# Altium schematic symbol library ICs.SCHLIB: 23 symbols
Pins are listed as number, name and electrical type; pins without a type are passive.

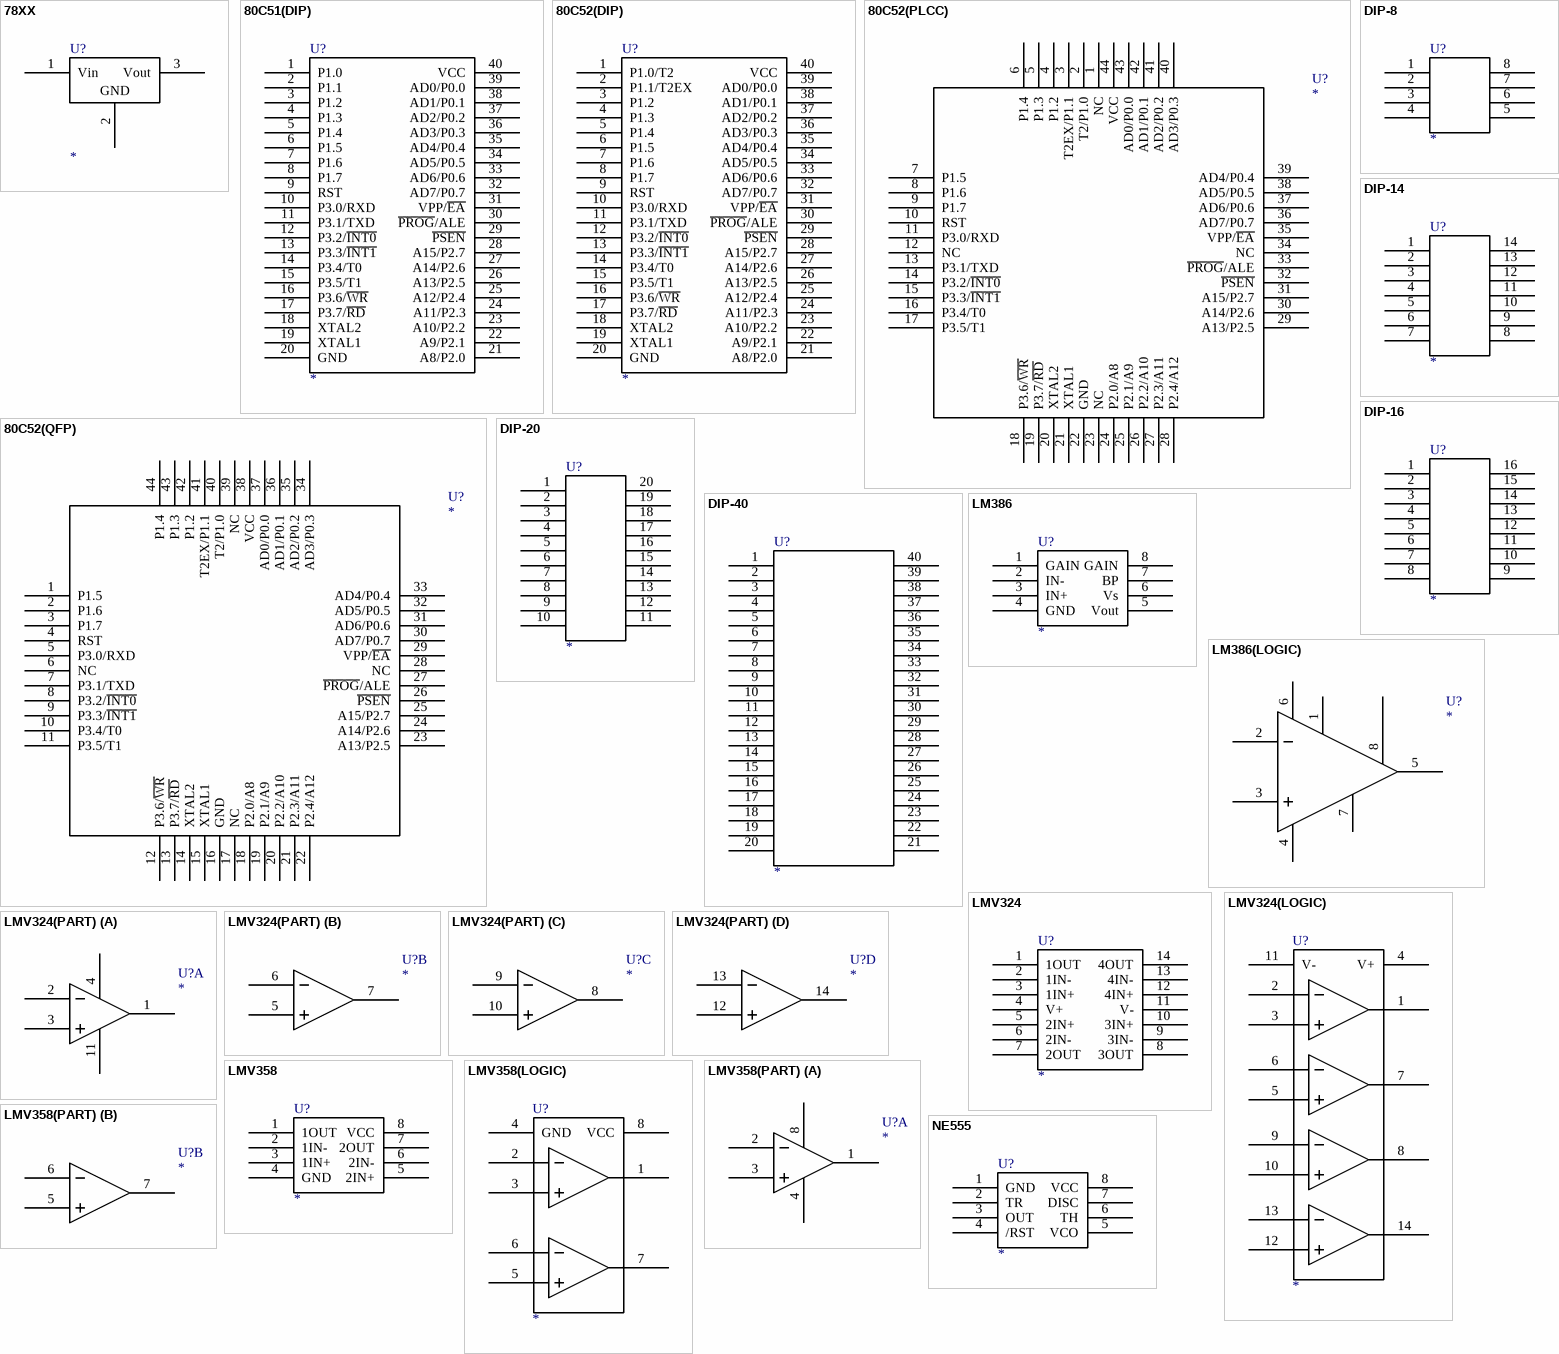
[diagram p0: symbols 78XX to NE555]

## 78XX
designator U?
footprint TO-220
footprint TO-220(A)
footprint TO-220(B)
pins: 1 Vin, 2 GND, 3 Vout

## 80C51(DIP)
designator U?
footprint DIP-40(600)
footprint DIP-40(CLAMP)
pins: 1 P1.0, 2 P1.1, 3 P1.2, 4 P1.3, 5 P1.4, 6 P1.5, 7 P1.6, 8 P1.7, 9 RST, 10 P3.0/RXD, 11 P3.1/TXD, 12 P3.2/~{INT0}, 13 P3.3/~{INT1}, 14 P3.4/T0, 15 P3.5/T1, 16 P3.6/~{WR}, 17 P3.7/~{RD}, 18 XTAL2, 19 XTAL1, 20 GND, 21 A8/P2.0, 22 A9/P2.1, 23 A10/P2.2, 24 A11/P2.3, 25 A12/P2.4, 26 A13/P2.5, 27 A14/P2.6, 28 A15/P2.7, 29 ~{PSEN}, 30 ~{PROG}/ALE, 31 VPP/~{EA}, 32 AD7/P0.7, 33 AD6/P0.6, 34 AD5/P0.5, 35 AD4/P0.4, 36 AD3/P0.3, 37 AD2/P0.2, 38 AD1/P0.1, 39 AD0/P0.0, 40 VCC

## 80C52(DIP)
designator U?
footprint DIP-40(600)
footprint DIP-40(CLAMP)
pins: 1 P1.0/T2, 2 P1.1/T2EX, 3 P1.2, 4 P1.3, 5 P1.4, 6 P1.5, 7 P1.6, 8 P1.7, 9 RST, 10 P3.0/RXD, 11 P3.1/TXD, 12 P3.2/~{INT0}, 13 P3.3/~{INT1}, 14 P3.4/T0, 15 P3.5/T1, 16 P3.6/~{WR}, 17 P3.7/~{RD}, 18 XTAL2, 19 XTAL1, 20 GND, 21 A8/P2.0, 22 A9/P2.1, 23 A10/P2.2, 24 A11/P2.3, 25 A12/P2.4, 26 A13/P2.5, 27 A14/P2.6, 28 A15/P2.7, 29 ~{PSEN}, 30 ~{PROG}/ALE, 31 VPP/~{EA}, 32 AD7/P0.7, 33 AD6/P0.6, 34 AD5/P0.5, 35 AD4/P0.4, 36 AD3/P0.3, 37 AD2/P0.2, 38 AD1/P0.1, 39 AD0/P0.0, 40 VCC

## 80C52(PLCC)
designator U?
pins: 1 NC, 2 T2/P1.0, 3 T2EX/P1.1, 4 P1.2, 5 P1.3, 6 P1.4, 7 P1.5, 8 P1.6, 9 P1.7, 10 RST, 11 P3.0/RXD, 12 NC, 13 P3.1/TXD, 14 P3.2/~{INT0}, 15 P3.3/~{INT1}, 16 P3.4/T0, 17 P3.5/T1, 18 P3.6/~{WR}, 19 P3.7/~{RD}, 20 XTAL2, 21 XTAL1, 22 GND, 23 NC, 24 P2.0/A8, 25 P2.1/A9, 26 P2.2/A10, 27 P2.3/A11, 28 P2.4/A12, 29 A13/P2.5, 30 A14/P2.6, 31 A15/P2.7, 32 ~{PSEN}, 33 ~{PROG}/ALE, 34 NC, 35 VPP/~{EA}, 36 AD7/P0.7, 37 AD6/P0.6, 38 AD5/P0.5, 39 AD4/P0.4, 40 AD3/P0.3, 41 AD2/P0.2, 42 AD1/P0.1, 43 AD0/P0.0, 44 VCC

## 80C52(QFP)
designator U?
footprint QFP-44
footprint TQFP-44
pins: 1 P1.5, 2 P1.6, 3 P1.7, 4 RST, 5 P3.0/RXD, 6 NC, 7 P3.1/TXD, 8 P3.2/~{INT0}, 9 P3.3/~{INT1}, 10 P3.4/T0, 11 P3.5/T1, 12 P3.6/~{WR}, 13 P3.7/~{RD}, 14 XTAL2, 15 XTAL1, 16 GND, 17 NC, 18 P2.0/A8, 19 P2.1/A9, 20 P2.2/A10, 21 P2.3/A11, 22 P2.4/A12, 23 A13/P2.5, 24 A14/P2.6, 25 A15/P2.7, 26 ~{PSEN}, 27 ~{PROG}/ALE, 28 NC, 29 VPP/~{EA}, 30 AD7/P0.7, 31 AD6/P0.6, 32 AD5/P0.5, 33 AD4/P0.4, 34 AD3/P0.3, 35 AD2/P0.2, 36 AD1/P0.1, 37 AD0/P0.0, 38 VCC, 39 NC, 40 T2/P1.0, 41 T2EX/P1.1, 42 P1.2, 43 P1.3, 44 P1.4

## DIP-8
designator U?
footprint DIP-8(300)
pins: 1, 2, 3, 4, 5, 6, 7, 8

## DIP-14
designator U?
footprint DIP-14(300)
pins: 1, 2, 3, 4, 5, 6, 7, 8, 9, 10, 11, 12, 13, 14

## DIP-16
designator U?
footprint DIP-16(300)
pins: 1, 2, 3, 4, 5, 6, 7, 8, 9, 10, 11, 12, 13, 14, 15, 16

## DIP-20
designator U?
footprint DIP-20(300)
pins: 1, 2, 3, 4, 5, 6, 7, 8, 9, 10, 11, 12, 13, 14, 15, 16, 17, 18, 19, 20

## DIP-40
designator U?
footprint DIP-40(600)
pins: 1, 2, 3, 4, 5, 6, 7, 8, 9, 10, 11, 12, 13, 14, 15, 16, 17, 18, 19, 20, 21, 22, 23, 24, 25, 26, 27, 28, 29, 30, 31, 32, 33, 34, 35, 36, 37, 38, 39, 40

## LM386
designator U?
footprint SOP-8(3.9)
footprint DIP-8(300)
pins: 1 GAIN, 2 IN-, 3 IN+, 4 GND, 5 Vout, 6 Vs, 7 BP, 8 GAIN

## LM386(LOGIC)
designator U?
footprint SOP-8(3.9)
footprint DIP-8(300)
pins: 1 GAIN, 2 IN-, 3 IN+, 4 GND, 5 Vout, 6 Vs, 7 BP, 8 GAIN

## LMV324
designator U?
footprint SOP-14(3.9)
pins: 1 1OUT, 2 1IN-, 3 1IN+, 4 V+, 5 2IN+, 6 2IN-, 7 2OUT, 8 3OUT, 9 3IN-, 10 3IN+, 11 V-, 12 4IN+, 13 4IN-, 14 4OUT

## LMV324(LOGIC)
designator U?
footprint SOP-14(3.9)
pins: 1 1OUT, 2 1IN-, 3 1IN+, 4 V+, 5 2IN+, 6 2IN-, 7 2OUT, 8 3OUT, 9 3IN-, 10 3IN+, 11 V-, 12 4IN+, 13 4IN-, 14 4OUT

## LMV324(PART)
designator U?
footprint SOP-14(3.9)
part A pins: 1 1OUT, 2 1IN-, 3 1IN+, 4 V+, 11 V-
part B pins: 5 2IN+, 6 2IN-, 7 2OUT
part C pins: 8 3OUT, 9 3IN-, 10 3IN+
part D pins: 12 4IN+, 13 4IN-, 14 4OUT

## LMV358
designator U?
footprint SOP-8(3.9)
pins: 1 1OUT, 2 1IN-, 3 1IN+, 4 GND, 5 2IN+, 6 2IN-, 7 2OUT, 8 VCC

## LMV358(LOGIC)
designator U?
footprint SOP-8(3.9)
pins: 1 1OUT, 2 1IN-, 3 1IN+, 4 GND, 5 2IN+, 6 2IN-, 7 2OUT, 8 VCC

## LMV358(PART)
designator U?
footprint SOP-8(3.9)
part A pins: 1 1OUT, 2 1IN-, 3 1IN+, 4 V-, 8 V+
part B pins: 5 1IN+, 6 1IN-, 7 1OUT

## NE555
designator U?
footprint SOP-8(3.9)
footprint DIP-8(300)
pins: 1 GND, 2 TR, 3 OUT, 4 /RST, 5 VCO, 6 TH, 7 DISC, 8 VCC

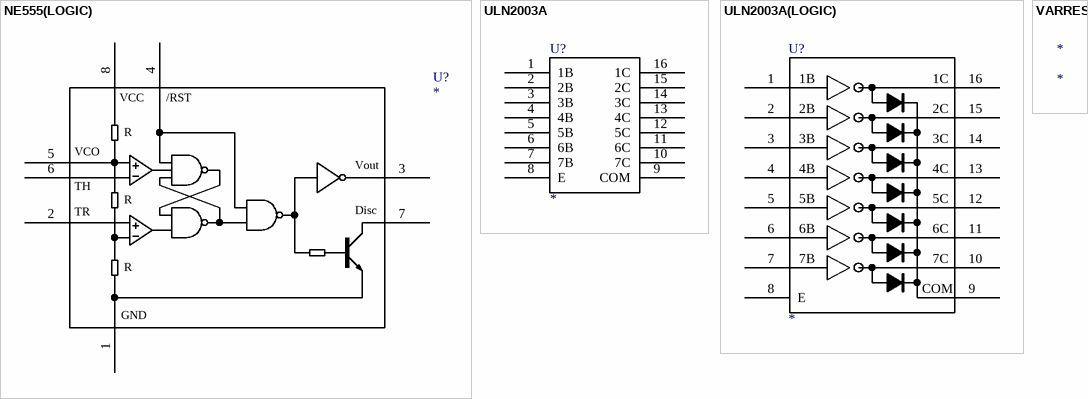
[diagram p1: symbols NE555(LOGIC) to VARRES]

## NE555(LOGIC)
designator U?
footprint SOP-8(3.9)
footprint DIP-8(300)
pins: 1 GND, 2 TR, 3 Vout, 4 ~{RST}, 5 Vco, 6 TH, 7 DISC, 8 Vcc
text: VCC; /RST; R; VCO; Disc

## ULN2003A
designator U?
footprint SOP-16(3.9)
pins: 1 1B, 2 2B, 3 3B, 4 4B, 5 5B, 6 6B, 7 7B, 8 E, 9 COM, 10 7C, 11 6C, 12 5C, 13 4C, 14 3C, 15 2C, 16 1C

## ULN2003A(LOGIC)
designator U?
footprint SOP-16(3.9)
pins: 1 1B, 2 2B, 3 3B, 4 4B, 5 5B, 6 6B, 7 7B, 8 E, 9 COM, 10 7C, 11 6C, 12 5C, 13 4C, 14 3C, 15 2C, 16 1C

## VARRES
designator *